# EAGLE library part UNO32_SHIELD (library mylib)
UNO32 shield Arduino type shield for the chipkit uno32
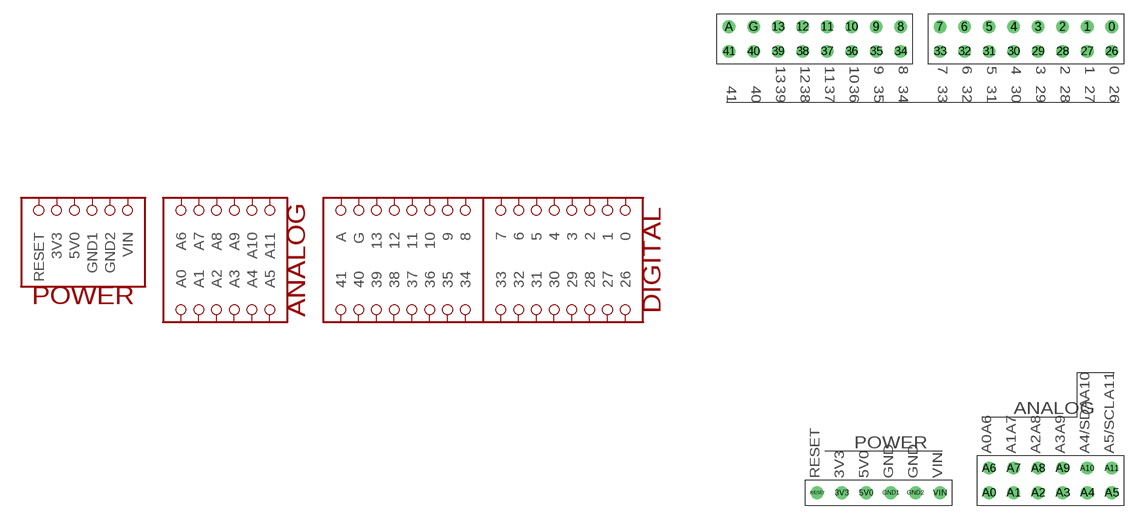
[diagram p2: symbol with the pads of UNO32_SHIELD; footprint UNO32_SHIELD]

Designator prefix -

## UNO32_SHIELD  [UNO32_SHIELD]
0  0
1  1
2  2
3  3
3V3  3V3
4  4
5  5
5V0  5V0
6  6
7  7
8  8
9  9
10  10
11  11
12  12
13  13
26  26
27  27
28  28
29  29
30  30
31  31
32  32
33  33
34  34
35  35
36  36
37  37
38  38
39  39
40  40
41  41
A  A
A0  A0
A1  A1
A2  A2
A3  A3
A4  A4
A5  A5
A6  A6
A7  A7
A8  A8
A9  A9
A10  A10
A11  A11
G  G
GND1  GND1
GND2  GND2
RESET  RESET
VIN  VIN

## Footprint UNO32_SHIELD (pad centres in mm)
Uno32 shield
drill 0.8: 0 0,48.26; 1 -2.54,48.26; 2 -5.08,48.26; 3 -7.62,48.26; 3V3 -27.94,0; 4 -10.16,48.26; 5 -12.7,48.26; 5V0 -25.4,0; 6 -15.24,48.26; 7 -17.78,48.26; 8 -21.844,48.26; 9 -24.384,48.26; 10 -26.924,48.26; 11 -29.464,48.26; 12 -32.004,48.26; 13 -34.544,48.26; 26 0,45.72; 27 -2.54,45.72; 28 -5.08,45.72; 29 -7.62,45.72; 30 -10.16,45.72; 31 -12.7,45.72; 32 -15.24,45.72; 33 -17.78,45.72; 34 -21.844,45.72; 35 -24.384,45.72; 36 -26.924,45.72; 37 -29.464,45.72; 38 -32.004,45.72; 39 -34.544,45.72; 40 -37.084,45.72; 41 -39.624,45.72; A -39.624,48.26; A0 -12.7,0; A1 -10.16,0; A2 -7.62,0; A3 -5.08,0; A4 -2.54,0; A5 0,0; A6 -12.7,2.54; A7 -10.16,2.54; A8 -7.62,2.54; A9 -5.08,2.54; A10 -2.54,2.54; A11 0,2.54; G -37.084,48.26; GND1 -22.86,0; GND2 -20.32,0; RESET -30.48,0; VIN -17.78,0